# Altium footprint library PVQFN-N20.PcbLib: 1 footprints
Each footprint in its own frame and in the unit in brackets; x right, y up, seen from the top. Pads: shape width x height; smd on the part's side, far side on the other; paste and mask are expansions set on the pad; w line width, h text height; cw(c..) or ccw(c..) is an arc to the next point about the centre after c.
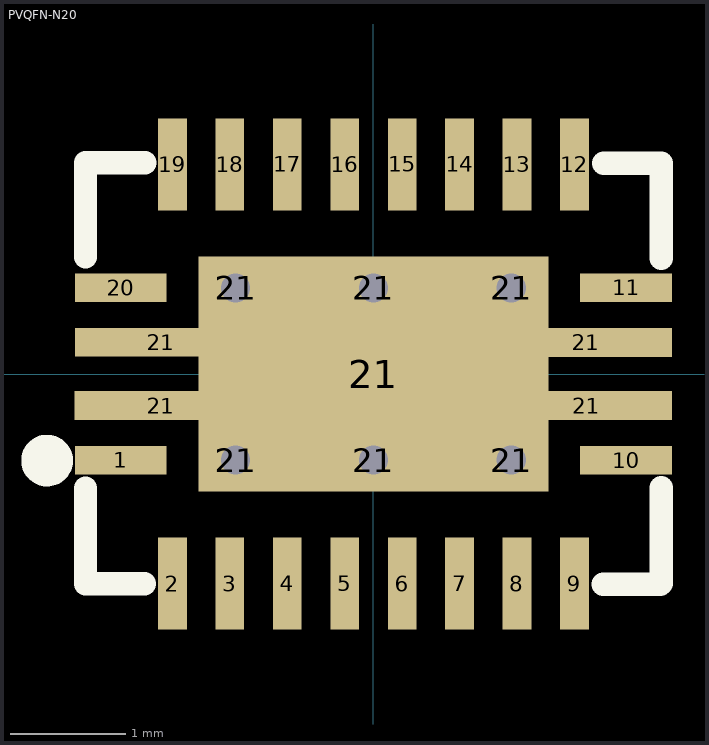
[diagram p0: the footprint, top view; thin cyan lines are the x and y axes]

## PVQFN-N20 [mm]
pads (31):
  rect 0.8x0.25 smd: 1(-2.2,-0.75) 10(2.2,-0.75) 11(2.2,0.75) 20(-2.2,0.75)
  rect 0.25x0.8 smd: 2(-1.75,-1.825) 3(-1.25,-1.825) 4(-0.75,-1.825) 5(-0.25,-1.825) 6(0.25,-1.825) 7(0.75,-1.825) 8(1.25,-1.825) 9(1.75,-1.825) 12(1.75,1.825) 13(1.25,1.825) 14(0.75,1.825) 15(0.25,1.825) 16(-0.25,1.825) 17(-0.75,1.825) 18(-1.25,1.825) 19(-1.75,1.825)
  rect 1.5x0.25 smd: 21(-1.852,-0.275) 21(-1.851,0.275) 21(1.849,0.275) 21(1.851,-0.275)
  round 0.457 hole 0.254: 21(-1.2,-0.75) 21(-1.2,0.75) 21(0,-0.75) 21(0,0.75) 21(1.2,-0.75) 21(1.2,0.75)
  rect 3.05x2.05 smd: 21(0,0)
Top Overlay:
  circle w0.254: c-2.842,-0.754 r0.098
  lines w0.203: -2.507,-0.995 -2.507,-1.828 -2.191,-1.828 -1.994,-1.828 ; -2.507,1.018 -2.507,1.84 -1.99,1.84 ; 2.001,-1.832 2.207,-1.832 2.499,-1.832 ; 2.005,1.836 2.507,1.836 2.507,1.007 ; 2.507,-1.824 2.507,-0.991
3D body: height 1, standoff 0, extent -2.195,-1.838 2.21,1.822